# Altium footprint library ErkitPackage.PcbLib: 46 footprints (part 1 of 3)
Each footprint in its own frame and in the unit in brackets; x right, y up, seen from the top. Pads: shape width x height; smd on the part's side, far side on the other; paste and mask are expansions set on the pad; w line width, h text height; cw(c..) or ccw(c..) is an arc to the next point about the centre after c.
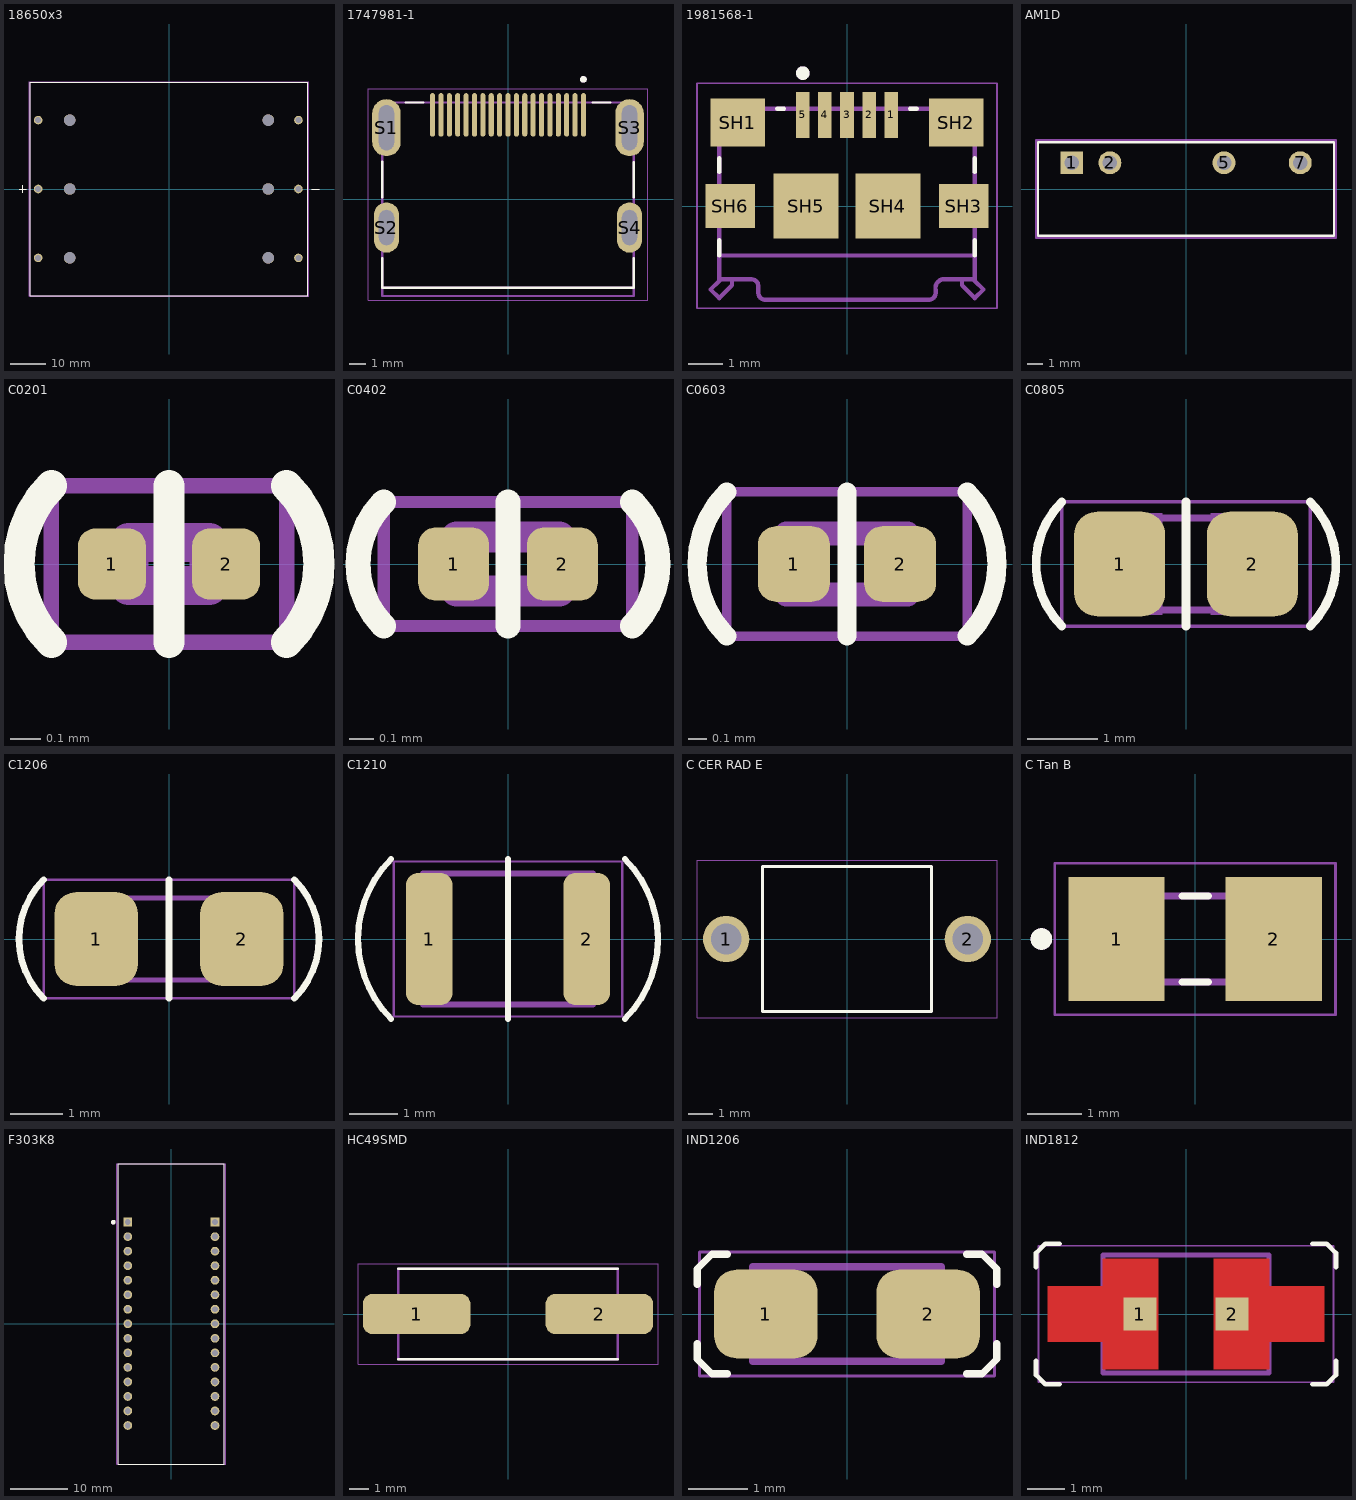
[diagram p0: the footprints below, top view; thin cyan lines are the x and y axes]

## 18650х3 [mm]
pads (12):
  round 2.4 hole 1.6: 1+(-36.65,19.3) 1-(36.25,19.3) 2+(-36.65,0) 2-(36.25,0) 3+(-36.65,-19.3) 3-(36.25,-19.3)
  round 3.2 hole 3.2 unplated: ""(-27.805,-19.3) ""(-27.805,0) ""(-27.805,19.3) ""(27.805,-19.3) ""(27.805,0) ""(27.805,19.3)
Top Overlay:
  lines w0.127: -42,0 -40,0 ; -41,-1 -41,1 ; 40,0 42,0 ; -38.85,-29.845 38.85,-29.845 38.85,29.845 -38.85,29.845 -38.85,-29.845
Mechanical 13:
  lines w0.127: -42,0 -40,0 ; -41,-1 -41,1 ; 40,0 42,0 ; -38.85,-29.845 38.85,-29.845 38.85,29.845 -38.85,29.845 -38.85,-29.845
Mechanical 15:
  lines w0.05: -39.1,-30.095 39.1,-30.095 39.1,30.095 -39.1,30.095 -39.1,-30.095
3D body "BK-18650-PC6--3DModel-STEP-56544.STEP": height 21.74, standoff -3, extent -38.85,-29.845 38.85,29.845

## 1747981-1 [mm]
pads (23):
  oval 0.3x2.6 smd mask+0.05: 1(4.5,5.035) 2(4,5.035) 3(3.5,5.035) 4(3,5.035) 5(2.5,5.035) 6(2,5.035) 7(1.5,5.035) 8(1,5.035) 9(0.5,5.035) 10(0,5.035) 11(-0.5,5.035) 12(-1,5.035) 13(-1.5,5.035) 14(-2,5.035) 15(-2.5,5.035) 16(-3,5.035) 17(-3.5,5.035) 18(-4,5.035) 19(-4.5,5.035)
  oval 1.7x3.4 hole 0.9 slot 2.7 at 90 deg: S1(-7.25,4.275) S3(7.25,4.275)
  oval 1.5x3 hole 0.9 slot 2.1 at 90 deg: S2(-7.25,-1.685) S4(7.25,-1.685)
Top Overlay:
  circle w0.2: c4.5,7.155 r0.1
  lines w0.127: -7.5,-3.495 -7.5,-5.275 7.5,-5.275 7.5,-3.495 ; -7.5,0.125 -7.5,2.265 ; -6.11,5.775 -5.05,5.775 ; 5.05,5.775 6.11,5.775 ; 7.5,0.125 7.5,2.215
Mechanical 13:
  circle w0.2: c4.5,7.155 r0.1
  lines w0.127: -7.5,-5.275 -7.5,5.775 7.5,5.775 7.5,-5.27 7.5,-5.275 ; -7.5,-5.275 -7.5,-5.775 7.5,-5.775 7.5,-5.275 ; -7.5,-5.275 7.5,-5.275
Mechanical 15:
  lines w0.05: -8.35,-6.025 -8.35,6.585 8.35,6.585 8.35,-6.025 -8.35,-6.025
3D body "Download_STP_685119134923_rev1.stp": height 6.18, standoff -2.2, extent -7.55,-6.46 7.45,5.69

## 1981568-1 [mm]
pads (11):
  rect 0.4x1.35 smd: 1(1.3,2.675) 2(0.65,2.675) 3(0,2.675) 4(-0.65,2.675) 5(-1.3,2.675)
  rect 1.6x1.4 smd: SH1(-3.2,2.45) SH2(3.2,2.45)
  rect 1.45x1.3 smd: SH3(3.425,0) SH6(-3.425,0)
  rect 1.9x1.9 smd: SH4(1.2,0) SH5(-1.2,0)
Top Overlay:
  circle w0.2: c-1.295,3.9 r0.1
  lines w0.127: -3.75,-1.45 -3.75,-1 ; -3.75,1 -3.75,1.4 ; -2.05,2.85 -1.85,2.85 ; 1.85,2.85 2.05,2.85 ; 3.75,-1.45 3.75,-1 ; 3.75,1 3.75,1.4
Mechanical 13:
  circle w0.2: c-1.3,3.9 r0.1
  lines w0.127: -3.78,-0.45 -4,-0.45 -4,0.45 -3.76,0.45 ; -3.75,-2.2 -4,-2.45 -3.75,-2.7 -3.375,-2.325 -3.375,-2.2 ; 2.6,-2.465 2.6,-2.55 cw(c2.4,-2.55) 2.4,-2.75 -2.4,-2.75 cw(c-2.4,-2.55) -2.6,-2.55 -2.6,-2.35 ccw(c-2.8,-2.35) -2.8,-2.15 -3.75,-2.15 -3.75,-1.45 ; 2.6,-2.467 cw(c2.857,-2.408) 2.798,-2.15 ; 2.8,-2.15 3.75,-2.15 3.75,-1.45 ; 3.375,-2.2 3.375,-2.325 3.75,-2.7 4,-2.45 3.75,-2.2 ; 3.76,0.45 4,0.45 4,-0.45 3.77,-0.45 ; -3.75,-1.45 3.75,-1.45 ; -3.75,-1.45 -3.75,2.85 3.75,2.85 3.75,-1.45
Mechanical 15:
  lines w0.05: -4.4,-3 4.4,-3 4.4,3.6 -4.4,3.6 -4.4,-3
3D body "step_temp.STEP": height 0.27, standoff -2.81, extent -4,-2.298 4,3.302

## AM1D [mil]
pads (4):
  rect 60x60 / inner round 60 / far side rect 60x60 hole 38 paste-99999 mask+0: 1(-300,70)
  round 60 hole 38 paste-99999 mask+0: 2(-200,70) 5(100,70) 7(300,70)
Top Overlay:
  lines w6: -389,-121.9 -389,124.1 389,124.1 389,-121.9 -389,-121.9
Mechanical 15:
  lines w6: -394,-126.9 394,-126.9 394,129.1 -394,129.1 -394,-126.9
3D body "SIP7_AM1D-Z_SINGLE_3000-6000VDC_AIM.step": height 394.02, standoff -212.01, extent -384.02,-117.99 384.02,117.99

## C0201 [mm]
pads (2):
  rrect50% 0.22x0.23 smd: 1(-0.185,0) 2(0.185,0)
Top Overlay:
  lines w0.102: -0.381,-0.254 cw(c-0.127,0) -0.381,0.254 ; 0,-0.254 0,0.254 ; 0.381,-0.254 ccw(c0.127,0) 0.381,0.254
Mechanical 13:
  lines w0.127: -0.13,-0.07 0.13,-0.07 0.13,0.07 -0.13,0.07 -0.13,-0.07
Mechanical 15:
  lines w0.05: -0.381,-0.254 0.381,-0.254 0.381,0.254 -0.381,0.254 -0.381,-0.254
3D body "GRM0115C1E101JE01L.STEP": height 0.12, standoff 0, extent -0.125,-0.064 0.125,0.075

## C0402 [mm]
pads (2):
  rrect50% 0.29x0.3 smd: 1(-0.222,0) 2(0.222,0)
Top Overlay:
  lines w0.102: -0.508,-0.254 cw(c-0.254,0) -0.508,0.254 ; 0,-0.254 0,0.254 ; 0.508,-0.254 ccw(c0.254,0) 0.508,0.254
Mechanical 13:
  lines w0.127: -0.21,-0.11 -0.21,0.11 0.21,0.11 0.21,-0.11 -0.21,-0.11
Mechanical 15:
  lines w0.05: -0.508,-0.254 0.508,-0.254 0.508,0.254 -0.508,0.254 -0.508,-0.254
3D body "GRM022R60J104ME15L.STEP": height 0.2, standoff 0, extent -0.2,-0.102 0.2,0.118

## C0603 [mm]
pads (2):
  rrect50% 0.38x0.4 smd: 1(-0.281,0) 2(0.281,0)
Top Overlay:
  lines w0.102: -0.635,-0.381 cw(c-0.254,0) -0.635,0.381 ; 0,-0.381 0,0.381 ; 0.635,-0.381 ccw(c0.254,0) 0.635,0.381
Mechanical 13:
  lines w0.127: -0.32,-0.16 0.32,-0.16 0.32,0.16 -0.32,0.16 -0.32,-0.16
Mechanical 15:
  lines w0.05: -0.635,-0.381 0.635,-0.381 0.635,0.381 -0.635,0.381 -0.635,-0.381
3D body "GRM0335C1H150JA01D.STEP": height 0.3, standoff 0, extent -0.3,-0.178 0.3,0.152

## C0805 [mm]
pads (2):
  rrect50% 1.3x1.5 smd: 1(-0.95,0) 2(0.95,0)
Top Overlay:
  lines w0.127: -1.778,-0.889 cw(c-0.889,0) -1.778,0.889 ; 0,-0.889 0,0.889 ; 1.778,-0.889 ccw(c0.889,0) 1.778,0.889
Mechanical 13:
  region: -0.342,-0.724 -1.092,-0.724 -1.092,0.726 -0.342,0.726
  region: 1.106,-0.724 0.356,-0.724 0.356,0.726 1.106,0.726
  lines w0.102: -0.381,0.66 0.381,0.66 ; -0.356,-0.66 0.381,-0.66
Mechanical 15:
  lines w0.051: -1.778,-0.889 1.778,-0.889 1.778,0.889 -1.778,0.889 -1.778,-0.889
3D body "Ceramic_Capacitor_0805_h24mil.step": height 0.61, standoff 0.01, extent -1,-0.625 1,0.625

## C1206 [mm]
pads (2):
  rrect50% 1.6x1.8 smd: 1(-1.4,0) 2(1.4,0)
Top Overlay:
  lines w0.127: -2.413,-1.143 cw(c-1.27,0) -2.413,1.143 ; 0,-1.143 0,1.143 ; 2.413,-1.143 ccw(c1.27,0) 2.413,1.143
Mechanical 13:
  lines w0.102: -0.965,-0.787 0.965,-0.787 ; -0.965,0.787 0.965,0.787
Mechanical 15:
  lines w0.051: -2.413,-1.143 -2.413,1.143 2.413,1.143 2.413,-1.143 -2.413,-1.143
3D body "Ceramic_Capacitor_1206_h63mil.step": height 1.61, standoff 0.01, extent -1.6,-0.8 1.6,0.8

## C1210 [mm]
pads (2):
  rrect50% 0.96x2.72 smd: 1(-1.625,0) 2(1.625,0)
Top Overlay:
  lines w0.127: -2.413,-1.651 cw(c-0.762,0) -2.413,1.651 ; 0,-1.651 0,1.651 ; 2.413,-1.651 ccw(c0.762,0) 2.413,1.651
Mechanical 13:
  lines w0.127: -1.75,-1.35 -1.75,1.35 1.75,1.35 1.75,-1.35 -1.75,-1.35
Mechanical 15:
  lines w0.05: -2.355,-1.6 -2.355,1.6 2.355,1.6 2.355,-1.6 -2.355,-1.6
3D body "Ceramic_Capacitor_1210_h50mil.step": height 1.26, standoff 0.01, extent -1.6,-1.25 1.6,1.25

## C CER RAD E [mm]
pads (2):
  round 1.92 hole 1.28: 1(-5,0) 2(5,0)
Top Overlay:
  lines w0.127: -3.5,-3 3.5,-3 3.5,3 -3.5,3 -3.5,-3
Mechanical 13:
  lines w0.127: -3.5,-3 3.5,-3 3.5,3 -3.5,3 -3.5,-3
Mechanical 15:
  lines w0.05: -6.21,-3.25 6.21,-3.25 6.21,3.25 -6.21,3.25 -6.21,-3.25
3D body "step_temp.STEP": height 11, standoff -2, extent -5.3,-3 5.303,3

## C Tan B [mm]
pads (2):
  rect 1.79x2.31 smd: 1(-1.46,0) 2(1.46,0)
Top Overlay:
  circle w0.2: c-2.855,0 r0.1
  lines w0.127: -0.245,-0.8 0.245,-0.8 ; -0.245,0.8 0.245,0.8
Mechanical 13:
  circle w0.2: c-2.855,0 r0.1
  lines w0.127: -1.75,-0.8 1.75,-0.8 1.75,0.8 -1.75,0.8 -1.75,-0.8
Mechanical 15:
  lines w0.05: -2.605,-1.405 2.605,-1.405 2.605,1.405 -2.605,1.405 -2.605,-1.405
3D body "step_temp.STEP": height 2.1, standoff 0, extent -1.75,-1.4 1.75,1.4

## F303K8 [mm]
pads (30):
  rect 1.53x1.53 hole 1.02: 3_1(-7.62,17.78) 4_1(7.62,17.78)
  round 1.53 hole 1.02: 3_2(-7.62,15.24) 3_3(-7.62,12.7) 3_4(-7.62,10.16) 3_5(-7.62,7.62) 3_6(-7.62,5.08) 3_7(-7.62,2.54) 3_8(-7.62,0) 3_9(-7.62,-2.54) 3_10(-7.62,-5.08) 3_11(-7.62,-7.62) 3_12(-7.62,-10.16) 3_13(-7.62,-12.7) 3_14(-7.62,-15.24) 3_15(-7.62,-17.78) 4_2(7.62,15.24) 4_3(7.62,12.7) 4_4(7.62,10.16) 4_5(7.62,7.62) 4_6(7.62,5.08) 4_7(7.62,2.54) 4_8(7.62,0) 4_9(7.62,-2.54) 4_10(7.62,-5.08) 4_11(7.62,-7.62) 4_12(7.62,-10.16) 4_13(7.62,-12.7) 4_14(7.62,-15.24) 4_15(7.62,-17.78)
Top Overlay:
  circle w0.4: c-10.16,17.78 r0.2
  lines w0.127: -9.27,-24.511 -9.27,27.94 9.27,27.94 9.27,-24.511 -9.27,-24.511
Mechanical 13:
  circle w0.4: c-10.16,17.78 r0.2
  lines w0.127: -9.27,-24.511 -9.27,27.94 9.27,27.94 9.27,-24.511 -9.27,-24.511
Mechanical 15:
  lines w0.05: -9.52,-24.511 -9.52,27.94 9.52,27.94 9.52,-24.511 -9.52,-24.511
3D body "NUCLEO-F303K8--3DModel-STEP-56544.STEP": height 8.5, standoff -6, extent -9.274,-24.319 9.271,27.684

## HC49SMD [mm]
pads (2):
  rrect50% 5.6x2.1 smd: 1(-4.75,0) 2(4.75,0)
Top Overlay:
  lines w0.127: -5.7,-2.35 5.7,-2.35 ; -5.7,2.35 5.7,2.35
Mechanical 13:
  lines w0.127: -5.7,-2.35 5.7,-2.35 5.7,2.35 -5.7,2.35 -5.7,-2.35
Mechanical 15:
  lines w0.05: -7.8,-2.6 7.8,-2.6 7.8,2.6 -7.8,2.6 -7.8,-2.6
3D body "step_temp.STEP": height 4.06, standoff -0.1, extent -6.35,-2.349 6.35,2.349

## IND1206 [mm]
pads (2):
  rrect50% 1.75x1.5 smd: 1(-1.375,0) 2(1.375,0)
Top Overlay:
  lines w0.127: -2.54,-0.508 -2.54,-0.762 -2.286,-1.016 -2.032,-1.016 ; -2.54,0.508 -2.54,0.762 -2.286,1.016 -2.032,1.016 ; 2.032,-1.016 2.286,-1.016 2.54,-0.762 2.54,-0.508 ; 2.032,1.016 2.286,1.016 2.54,0.762 2.54,0.508
Mechanical 13:
  lines w0.127: -1.6,-0.8 -1.6,0.8 1.6,0.8 1.6,-0.8 -1.6,-0.8
Mechanical 15:
  lines w0.05: -2.5,-1.05 -2.5,1.05 2.5,1.05 2.5,-1.05 -2.5,-1.05
3D body "LQH31MN3R3K03L.STEP": height 2, standoff 0, extent -1.6,-0.8 1.6,0.8

## IND1812 [mm]
pads (2):
  rect 0.9x0.9 smd paste-1 mask+0: 1(-1.25,0) 2(1.25,0)
Top Layer:
  region: -0.75,-1.5 -2.25,-1.5 -2.25,-0.75 -3.75,-0.75 -3.75,0.75 -2.25,0.75 -2.25,1.5 -0.75,1.5
  region: 2.25,0.75 3.75,0.75 3.75,-0.75 2.25,-0.75 2.25,-1.5 0.75,-1.5 0.75,1.5 2.25,1.5
Top Overlay:
  lines w0.127: -4.064,-1.27 -4.064,-1.651 -3.81,-1.905 -3.429,-1.905 ; -4.064,1.27 -4.064,1.651 -3.81,1.905 -3.429,1.905 ; 3.429,-1.905 3.81,-1.905 4.064,-1.651 4.064,-1.27 ; 3.429,1.905 3.81,1.905 4.064,1.651 4.064,1.27
Top Paste:
  region: -0.75,-1.5 -2.25,-1.5 -2.25,-0.75 -3.75,-0.75 -3.75,0.75 -2.25,0.75 -2.25,1.5 -0.75,1.5
  region: 2.25,0.75 3.75,0.75 3.75,-0.75 2.25,-0.75 2.25,-1.5 0.75,-1.5 0.75,1.5 2.25,1.5
Top Solder:
  region: -0.65,-1.6 -2.35,-1.6 -2.35,-0.85 -3.85,-0.85 -3.85,0.85 -2.35,0.85 -2.35,1.6 -0.65,1.6
  region: 2.35,0.85 3.85,0.85 3.85,-0.85 2.35,-0.85 2.35,-1.6 0.65,-1.6 0.65,1.6 2.35,1.6
Mechanical 13:
  lines w0.127: -2.25,-1.6 2.25,-1.6 2.25,1.6 -2.25,1.6 -2.25,-1.6
Mechanical 15:
  lines w0.05: -4,-1.85 4,-1.85 4,1.85 -4,1.85 -4,-1.85
3D body "LQH43MN3R3M03L.STEP": height 2.8, standoff 0, extent -2.25,-1.6 2.25,1.6